# Altium schematic symbol library Relay_F1CA005V_3parts.SchLib: 1 symbol
Pins are listed as number, name and electrical type; pins without a type are passive.

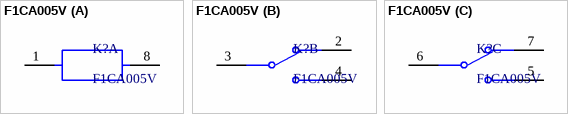
[diagram p0: symbol F1CA005V]

## F1CA005V
designator K?
footprint Relay_F1CA005V_Omron
footprint OMRON-G2RL-24_V
footprint V23079-A1001-B301
part A pins: 1, 8
part B pins: 2, 3, 4
part C pins: 5, 6, 7